# EAGLE library part 687126144921 (library Wuerth_Elektronik_eiCan_03_ZIF_Connectors_&_Flat_Flexible_Cable)
WR-FPC 0.5mm SMT ZIF Horizontal Top Contact Low Profile 1.2mm Height, 26 Pins
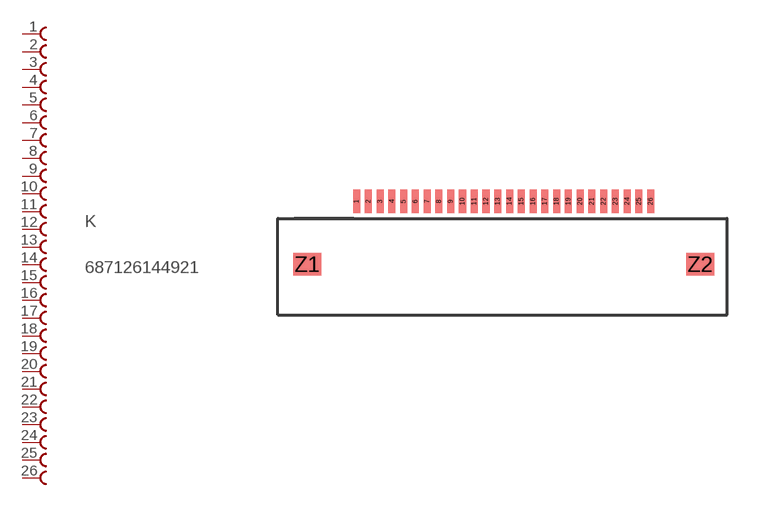
[diagram p100: symbol with the pads of 687126144921; footprint 687126144921]

Designator prefix K

## 687126144921  [687126144921]
1  1  pas
2  2  pas
3  3  pas
4  4  pas
5  5  pas
6  6  pas
7  7  pas
8  8  pas
9  9  pas
10  10  pas
11  11  pas
12  12  pas
13  13  pas
14  14  pas
15  15  pas
16  16  pas
17  17  pas
18  18  pas
19  19  pas
20  20  pas
21  21  pas
22  22  pas
23  23  pas
24  24  pas
25  25  pas
26  26  pas

## Footprint 687126144921 (pad centres in mm)
WR-FPC 0.5mm SMT ZIF Horizontal Top Contact Low Profile 1.2mm Height, 26 Pins
smd 0.3 x 1: 1 -6.25,4.825; 2 -5.75,4.825; 3 -5.25,4.825; 4 -4.75,4.825; 5 -4.25,4.825; 6 -3.75,4.825; 7 -3.25,4.825; 8 -2.75,4.825; 9 -2.25,4.825; 10 -1.75,4.825; 11 -1.25,4.825; 12 -0.75,4.825; 13 -0.25,4.825; 14 0.25,4.825; 15 0.75,4.825; 16 1.25,4.825; 17 1.75,4.825; 18 2.25,4.825; 19 2.75,4.825; 20 3.25,4.825; 21 3.75,4.825; 22 4.25,4.825; 23 4.75,4.825; 24 5.25,4.825; 25 5.75,4.825; 26 6.25,4.825
smd 1.2 x 0.95: Z1 -8.35,2.15; Z2 8.35,2.15